# Altium schematic symbol library SCH - DRIVER - LED - TI TPS61096ADSS.SchLib: 1 symbol
Pins are listed as number, name and electrical type; pins without a type are passive.

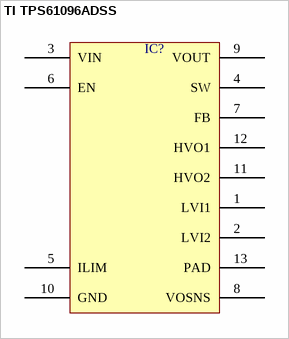
[diagram p0: symbol TI TPS61096ADSS]

## TI TPS61096ADSS
designator IC?  (value not drawn)
pins: 1 LVI1, 2 LVI2, 3 VIN, 4 SW, 5 ILIM, 6 EN, 7 FB, 8 VOSNS, 9 VOUT, 10 GND, 11 HVO2, 12 HVO1, 13 PAD